# EAGLE library part AQH-SSD (library fxkr_aqh2223ax)
e.g.: AQH3213A (Digikey <https://www.digikey.com/product-detail/en/AQH3213A/255-2661-ND/2125783>) AQH2223AX (Digikey <https://www.digikey.com/product-detail/en/AQH2223AX/255-3922-1-ND/3885629>)
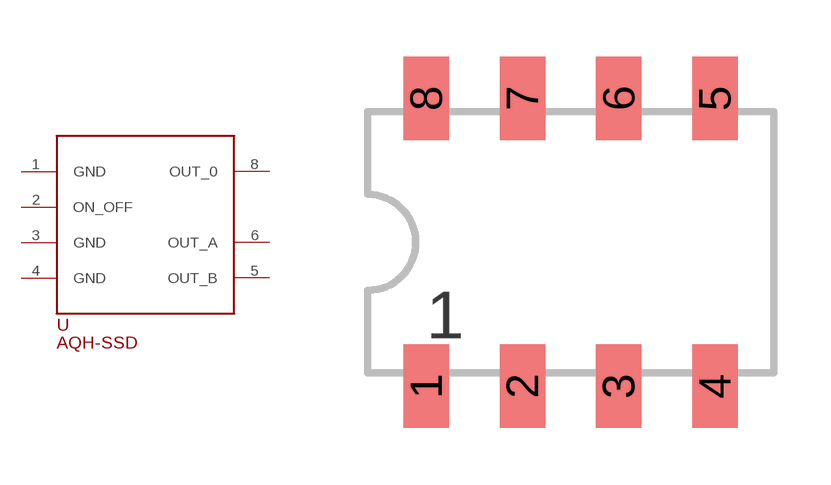
[diagram p0: symbol with the pads of DIP8; footprint DIP8]

Designator prefix -

## AQH-SSD  [DIP8]
1  GND
2  ON_OFF
3  GND
4  GND
5  OUT_B
6  OUT_A
8  OUT_0

## Footprint DIP8 (pad centres in mm)
SMD DIL08 dual in line package'
smd 1.2 x 2.2: 1 -3.81,-3.8; 2 -1.27,-3.8; 3 1.27,-3.8; 4 3.81,-3.8; 5 3.81,3.8; 6 1.27,3.8; 7 -1.27,3.8; 8 -3.81,3.8